# EAGLE library part POCKETBEAGLE (library robot)
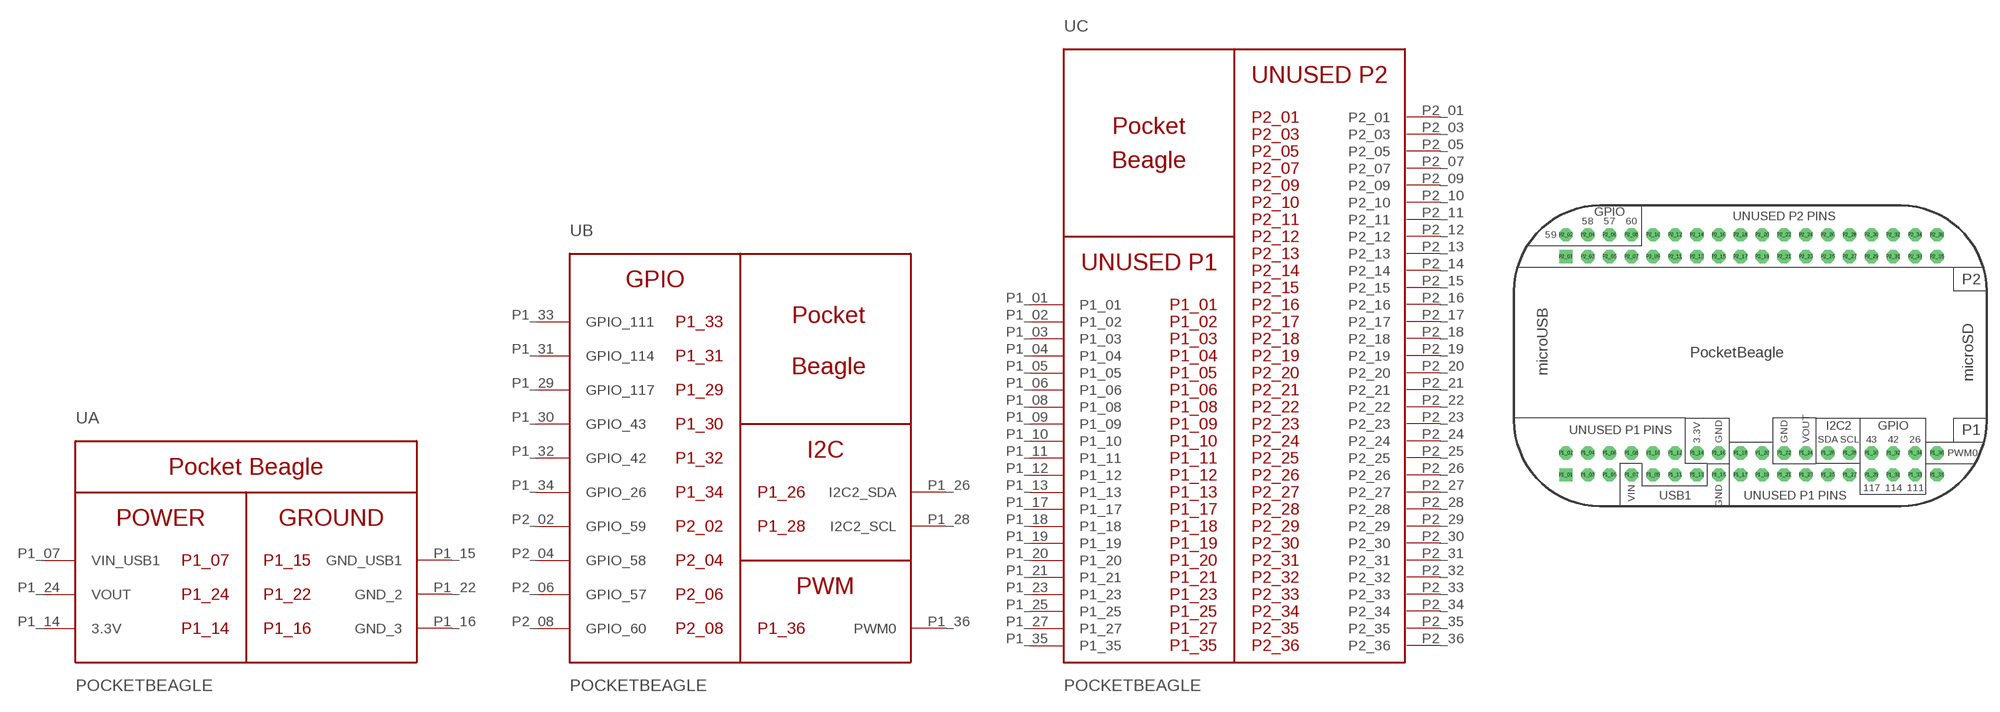
[diagram p1: symbol with the pads of POCKETBEAGLE; footprint POCKETBEAGLE]

Designator prefix U; gates B=PB_GPIO_I2C_PWM C=PB_UNUSED A=PB_PWR_GND

## POCKETBEAGLE  [POCKETBEAGLE]
P1_01  C:P1_01
P1_02  C:P1_02
P1_03  C:P1_03
P1_04  C:P1_04
P1_05  C:P1_05
P1_06  C:P1_06
P1_07  A:VIN_USB1  pwr
P1_08  C:P1_08
P1_09  C:P1_09
P1_10  C:P1_10
P1_11  C:P1_11
P1_12  C:P1_12
P1_13  C:P1_13
P1_14  A:3.3V  pwr
P1_15  A:GND_USB1
P1_16  A:GND_3
P1_17  C:P1_17
P1_18  C:P1_18
P1_19  C:P1_19
P1_20  C:P1_20
P1_21  C:P1_21
P1_22  A:GND_2
P1_23  C:P1_23
P1_24  A:VOUT  pwr
P1_25  C:P1_25
P1_26  B:I2C2_SDA
P1_27  C:P1_27
P1_28  B:I2C2_SCL
P1_29  B:GPIO_117
P1_30  B:GPIO_43
P1_31  B:GPIO_114
P1_32  B:GPIO_42
P1_33  B:GPIO_111
P1_34  B:GPIO_26
P1_35  C:P1_35
P1_36  B:PWM0
P2_01  C:P2_01
P2_02  B:GPIO_59
P2_03  C:P2_03
P2_04  B:GPIO_58
P2_05  C:P2_05
P2_06  B:GPIO_57
P2_07  C:P2_07
P2_08  B:GPIO_60
P2_09  C:P2_09
P2_10  C:P2_10
P2_11  C:P2_11
P2_12  C:P2_12
P2_13  C:P2_13
P2_14  C:P2_14
P2_15  C:P2_15
P2_16  C:P2_16
P2_17  C:P2_17
P2_18  C:P2_18
P2_19  C:P2_19
P2_20  C:P2_20
P2_21  C:P2_21
P2_22  C:P2_22
P2_23  C:P2_23
P2_24  C:P2_24
P2_25  C:P2_25
P2_26  C:P2_26
P2_27  C:P2_27
P2_28  C:P2_28
P2_29  C:P2_29
P2_30  C:P2_30
P2_31  C:P2_31
P2_32  C:P2_32
P2_33  C:P2_33
P2_34  C:P2_34
P2_35  C:P2_35
P2_36  C:P2_36

## Footprint POCKETBEAGLE (pad centres in mm)
drill 0.889 pad 1.524 square: P1_01 5.91,3.53; P2_01 5.91,28.93
drill 0.889 pad 1.524 octagon: P1_02 5.91,6.07; P1_03 8.45,3.53; P1_04 8.45,6.07; P1_05 10.99,3.53; P1_06 10.99,6.07; P1_07 13.53,3.53; P1_08 13.53,6.07; P1_09 16.07,3.53; P1_10 16.07,6.07; P1_11 18.61,3.53; P1_12 18.61,6.07; P1_13 21.15,3.53; P1_14 21.15,6.07; P1_15 23.69,3.53; P1_16 23.69,6.07; P1_17 26.23,3.53; P1_18 26.23,6.07; P1_19 28.77,3.53; P1_20 28.77,6.07; P1_21 31.31,3.53; P1_22 31.31,6.07; P1_23 33.85,3.53; P1_24 33.85,6.07; P1_25 36.39,3.53; P1_26 36.39,6.07; P1_27 38.93,3.53; P1_28 38.93,6.07; P1_29 41.47,3.53; P1_30 41.47,6.07; P1_31 44.01,3.53; P1_32 44.01,6.07; P1_33 46.55,3.53; P1_34 46.55,6.07; P1_35 49.09,3.53; P1_36 49.09,6.07; P2_02 5.91,31.47; P2_03 8.45,28.93; P2_04 8.45,31.47; P2_05 10.99,28.93; P2_06 10.99,31.47; P2_07 13.53,28.93; P2_08 13.53,31.47; P2_09 16.07,28.93; P2_10 16.07,31.47; P2_11 18.61,28.93; P2_12 18.61,31.47; P2_13 21.15,28.93; P2_14 21.15,31.47; P2_15 23.69,28.93; P2_16 23.69,31.47; P2_17 26.23,28.93; P2_18 26.23,31.47; P2_19 28.77,28.93; P2_20 28.77,31.47; P2_21 31.31,28.93; P2_22 31.31,31.47; P2_23 33.85,28.93; P2_24 33.85,31.47; P2_25 36.39,28.93; P2_26 36.39,31.47; P2_27 38.93,28.93; P2_28 38.93,31.47; P2_29 41.47,28.93; P2_30 41.47,31.47; P2_31 44.01,28.93; P2_32 44.01,31.47; P2_33 46.55,28.93; P2_34 46.55,31.47; P2_35 49.09,28.93; P2_36 49.09,31.47